# EAGLE library part 233-412 (library JLB6_Connec)
WAGO
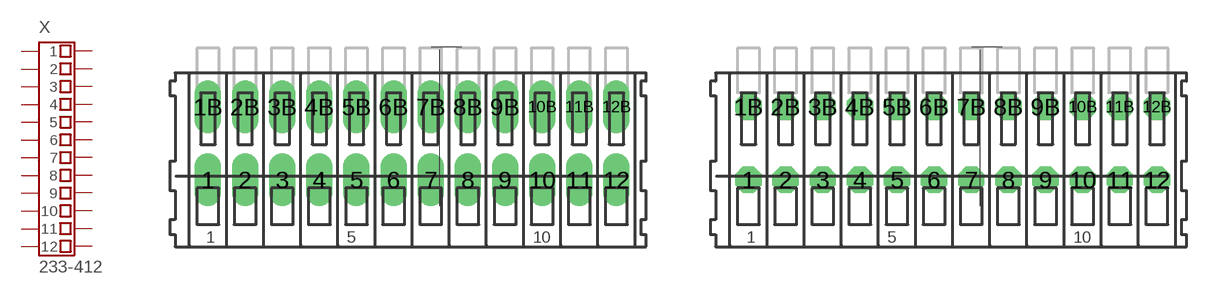
[diagram p53: symbol with the pads of 233-412; footprints 233-412, 233-412-ROUND]

Designator prefix X

## 233-412  [233-412]
1  1  pas
1B  B-1  pas
2  2  pas
2B  B-2  pas
3  3  pas
3B  B-3  pas
4  4  pas
4B  B-4  pas
5  5  pas
5B  B-5  pas
6  6  pas
6B  B-6  pas
7  7  pas
7B  B-7  pas
8  8  pas
8B  B-8  pas
9  9  pas
9B  B-9  pas
10  10  pas
10B  B-10  pas
11  11  pas
11B  B-11  pas
12  12  pas
12B  B-12  pas

## 233-4122.54  [233-412-ROUND]
Pads as for 233-412

## 233-4122.50  [233-212-ROUND-250]
Pads as for 233-412

## Footprint 233-412 (pad centres in mm)
WAGO
drill 1.2 long: 1 -13.97,-2.5; 1B -13.97,2.5; 2 -11.43,-2.5; 2B -11.43,2.5; 3 -8.89,-2.5; 3B -8.89,2.5; 4 -6.35,-2.5; 4B -6.35,2.5; 5 -3.81,-2.5; 5B -3.81,2.5; 6 -1.27,-2.5; 6B -1.27,2.5; 7 1.27,-2.5; 7B 1.27,2.5; 8 3.81,-2.5; 8B 3.81,2.5; 9 6.35,-2.5; 9B 6.35,2.5; 10 8.89,-2.5; 10B 8.89,2.5; 11 11.43,-2.5; 11B 11.43,2.5; 12 13.97,-2.5; 12B 13.97,2.5

## Footprint 233-412-ROUND (pad centres in mm)
drill 1.2 octagon: 1 -13.97,-2.475; 1B -13.97,2.525; 2 -11.43,-2.475; 2B -11.43,2.525; 3 -8.89,-2.475; 3B -8.89,2.525; 4 -6.35,-2.475; 4B -6.35,2.525; 5 -3.81,-2.475; 5B -3.81,2.525; 6 -1.27,-2.475; 6B -1.27,2.525; 7 1.27,-2.475; 7B 1.27,2.525; 8 3.81,-2.475; 8B 3.81,2.525; 9 6.35,-2.475; 9B 6.35,2.525; 10 8.89,-2.475; 10B 8.89,2.525; 11 11.43,-2.475; 11B 11.43,2.525; 12 13.97,-2.475; 12B 13.97,2.525

## Footprint 233-212-ROUND-250 (pad centres in mm)
drill 1.2 octagon: 1 -13.75,-2.5; 1B -13.75,2.5; 2 -11.25,-2.5; 2B -11.25,2.5; 3 -8.75,-2.5; 3B -8.75,2.5; 4 -6.25,-2.5; 4B -6.25,2.5; 5 -3.75,-2.5; 5B -3.75,2.5; 6 -1.25,-2.5; 6B -1.25,2.5; 7 1.25,-2.5; 7B 1.25,2.5; 8 3.75,-2.5; 8B 3.75,2.5; 9 6.25,-2.5; 9B 6.25,2.5; 10 8.75,-2.5; 10B 8.75,2.5; 11 11.25,-2.5; 11B 11.25,2.5; 12 13.75,-2.5; 12B 13.75,2.5